# Altium schematic symbol library ACS709.Schlib: 1 symbol
Pins are listed as number, name and electrical type; pins without a type are passive.

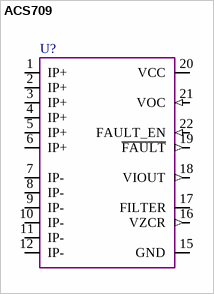
[diagram p0: symbol ACS709]

## ACS709
designator U?  (value not drawn)
pins: 1 IP+, 2 IP+, 3 IP+, 4 IP+, 5 IP+, 6 IP+, 7 IP-, 8 IP-, 9 IP-, 10 IP-, 11 IP-, 12 IP-, 15 GND (power), 16 VZCR (out), 17 FILTER, 18 VIOUT (out), 19 ~{FAULT} (out), 20 VCC (power), 21 VOC (in), 22 FAULT_EN (in)